# Altium schematic symbol library Schlib1.SchLib: 8 symbols
Pins are listed as number, name and electrical type; pins without a type are passive.

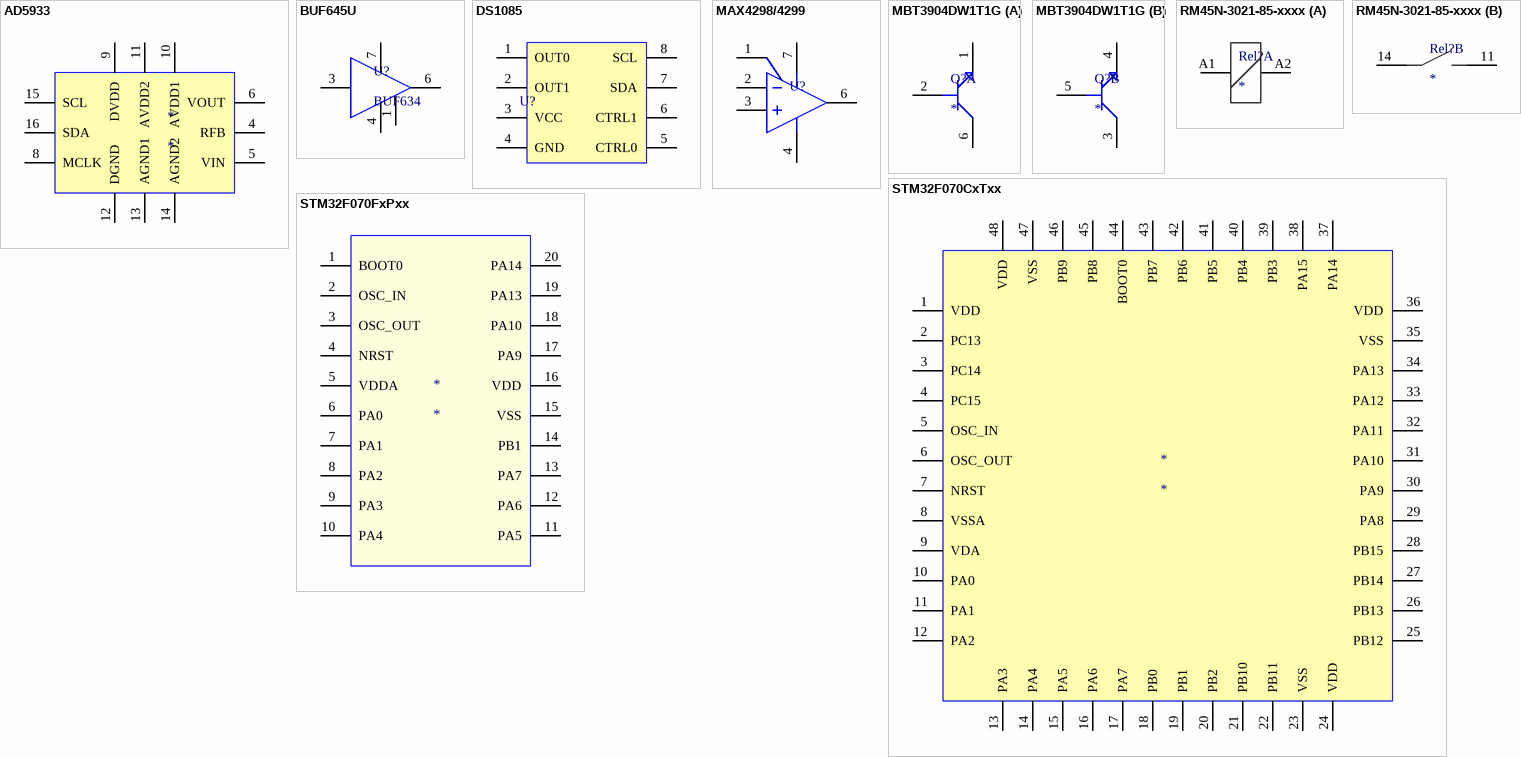
[diagram p0: symbols AD5933 to STM32F070FxPxx]

## AD5933
designator *
pins: 4 RFB, 5 VIN, 6 VOUT, 8 MCLK, 9 DVDD, 10 AVDD1, 11 AVDD2, 12 DGND, 13 AGND1, 14 AGND2, 15 SCL, 16 SDA

## BUF645U
designator U?, comment BUF634
pins: 1 BW, 3 VIN, 4 V-, 6 VOUT, 7 V+

## DS1085
designator U?  (value not drawn)
pins: 1 OUT0, 2 OUT1, 3 VCC, 4 GND, 5 CTRL0, 6 CTRL1, 7 SDA, 8 SCL

## MAX4298/4299
designator U?  (value not drawn)
pins: 1 SHDN, 2 -, 3 +, 4, 6, 7

## MBT3904DW1T1G
designator Q?
part A pins: 1, 2, 6 2
part B pins: 3, 4, 5

## RM45N-3021-85-xxxx
designator Rel?
part A pins: A1 COIL, A2 COIL
part B pins: 11 SW, 14 SW

## STM32F070CxTxx
designator *
pins: 1 VDD, 2 PC13, 3 PC14, 4 PC15, 5 OSC_IN, 6 OSC_OUT, 7 NRST, 8 VSSA, 9 VDA, 10 PA0, 11 PA1, 12 PA2, 13 PA3, 14 PA4, 15 PA5, 16 PA6, 17 PA7, 18 PB0, 19 PB1, 20 PB2, 21 PB10, 22 PB11, 23 VSS, 24 VDD, 25 PB12, 26 PB13, 27 PB14, 28 PB15, 29 PA8, 30 PA9, 31 PA10, 32 PA11, 33 PA12, 34 PA13, 35 VSS, 36 VDD, 37 PA14, 38 PA15, 39 PB3, 40 PB4, 41 PB5, 42 PB6, 43 PB7, 44 BOOT0, 45 PB8, 46 PB9, 47 VSS, 48 VDD

## STM32F070FxPxx
designator *
pins: 1 BOOT0, 2 OSC_IN, 3 OSC_OUT, 4 NRST, 5 VDDA, 6 PA0, 7 PA1, 8 PA2, 9 PA3, 10 PA4, 11 PA5, 12 PA6, 13 PA7, 14 PB1, 15 VSS, 16 VDD, 17 PA9, 18 PA10, 19 PA13, 20 PA14